# Altium footprint library 222_273_CAP.PcbLib: 1 footprints
Each footprint in its own frame and in the unit in brackets; x right, y up, seen from the top. Pads: shape width x height; smd on the part's side, far side on the other; paste and mask are expansions set on the pad; w line width, h text height; cw(c..) or ccw(c..) is an arc to the next point about the centre after c.
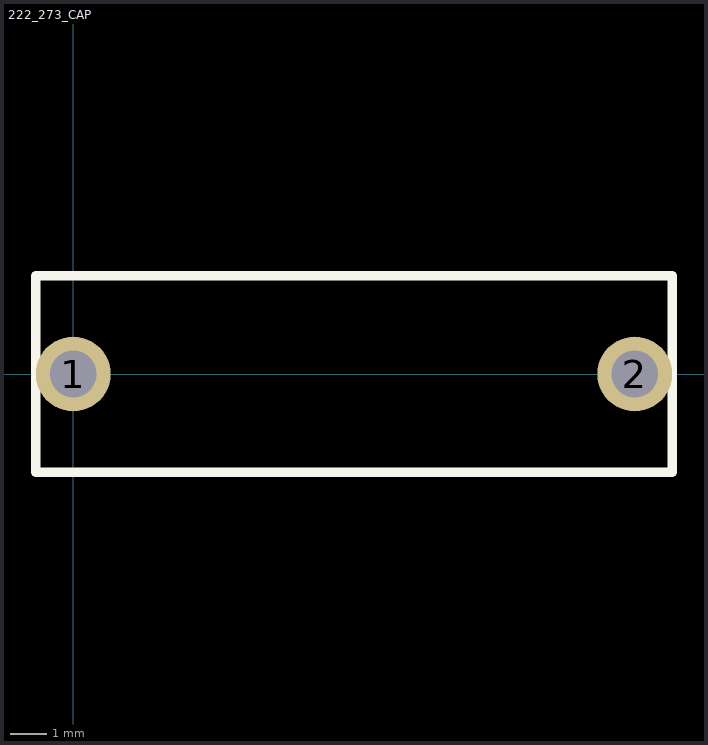
[diagram p0: the footprint, top view; thin cyan lines are the x and y axes]

## 222_273_CAP [mil]
height 750
pads (2):
  round 80 hole 50: 1(0,0) 2(600,0)
Top Overlay:
  lines w10: -40,-105 640,-105 640,105 -40,105 -40,-105
3D body: height 750, standoff 0, extent -40,-105 640,105